# Altium footprint library ceramic  capacitor.PcbLib: 1 footprints
Each footprint in its own frame and in the unit in brackets; x right, y up, seen from the top. Pads: shape width x height; smd on the part's side, far side on the other; paste and mask are expansions set on the pad; w line width, h text height; cw(c..) or ccw(c..) is an arc to the next point about the centre after c.
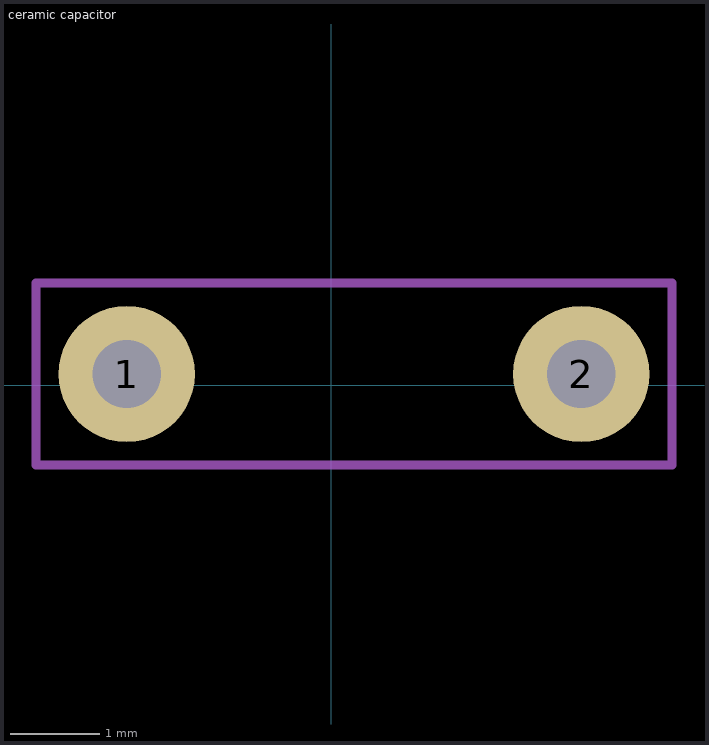
[diagram p0: the footprint, top view; thin cyan lines are the x and y axes]

## ceramic capacitor [mil]
pads (2):
  round 60 hole 30: 1(-90,5) 2(110,5)
Mechanical 1:
  lines w3.94: -130,-35 150,-35 150,45 -130,45 -130,-35